# Altium schematic symbol library Connector.SchLib: 87 symbols
Pins are listed as number, name and electrical type; pins without a type are passive.

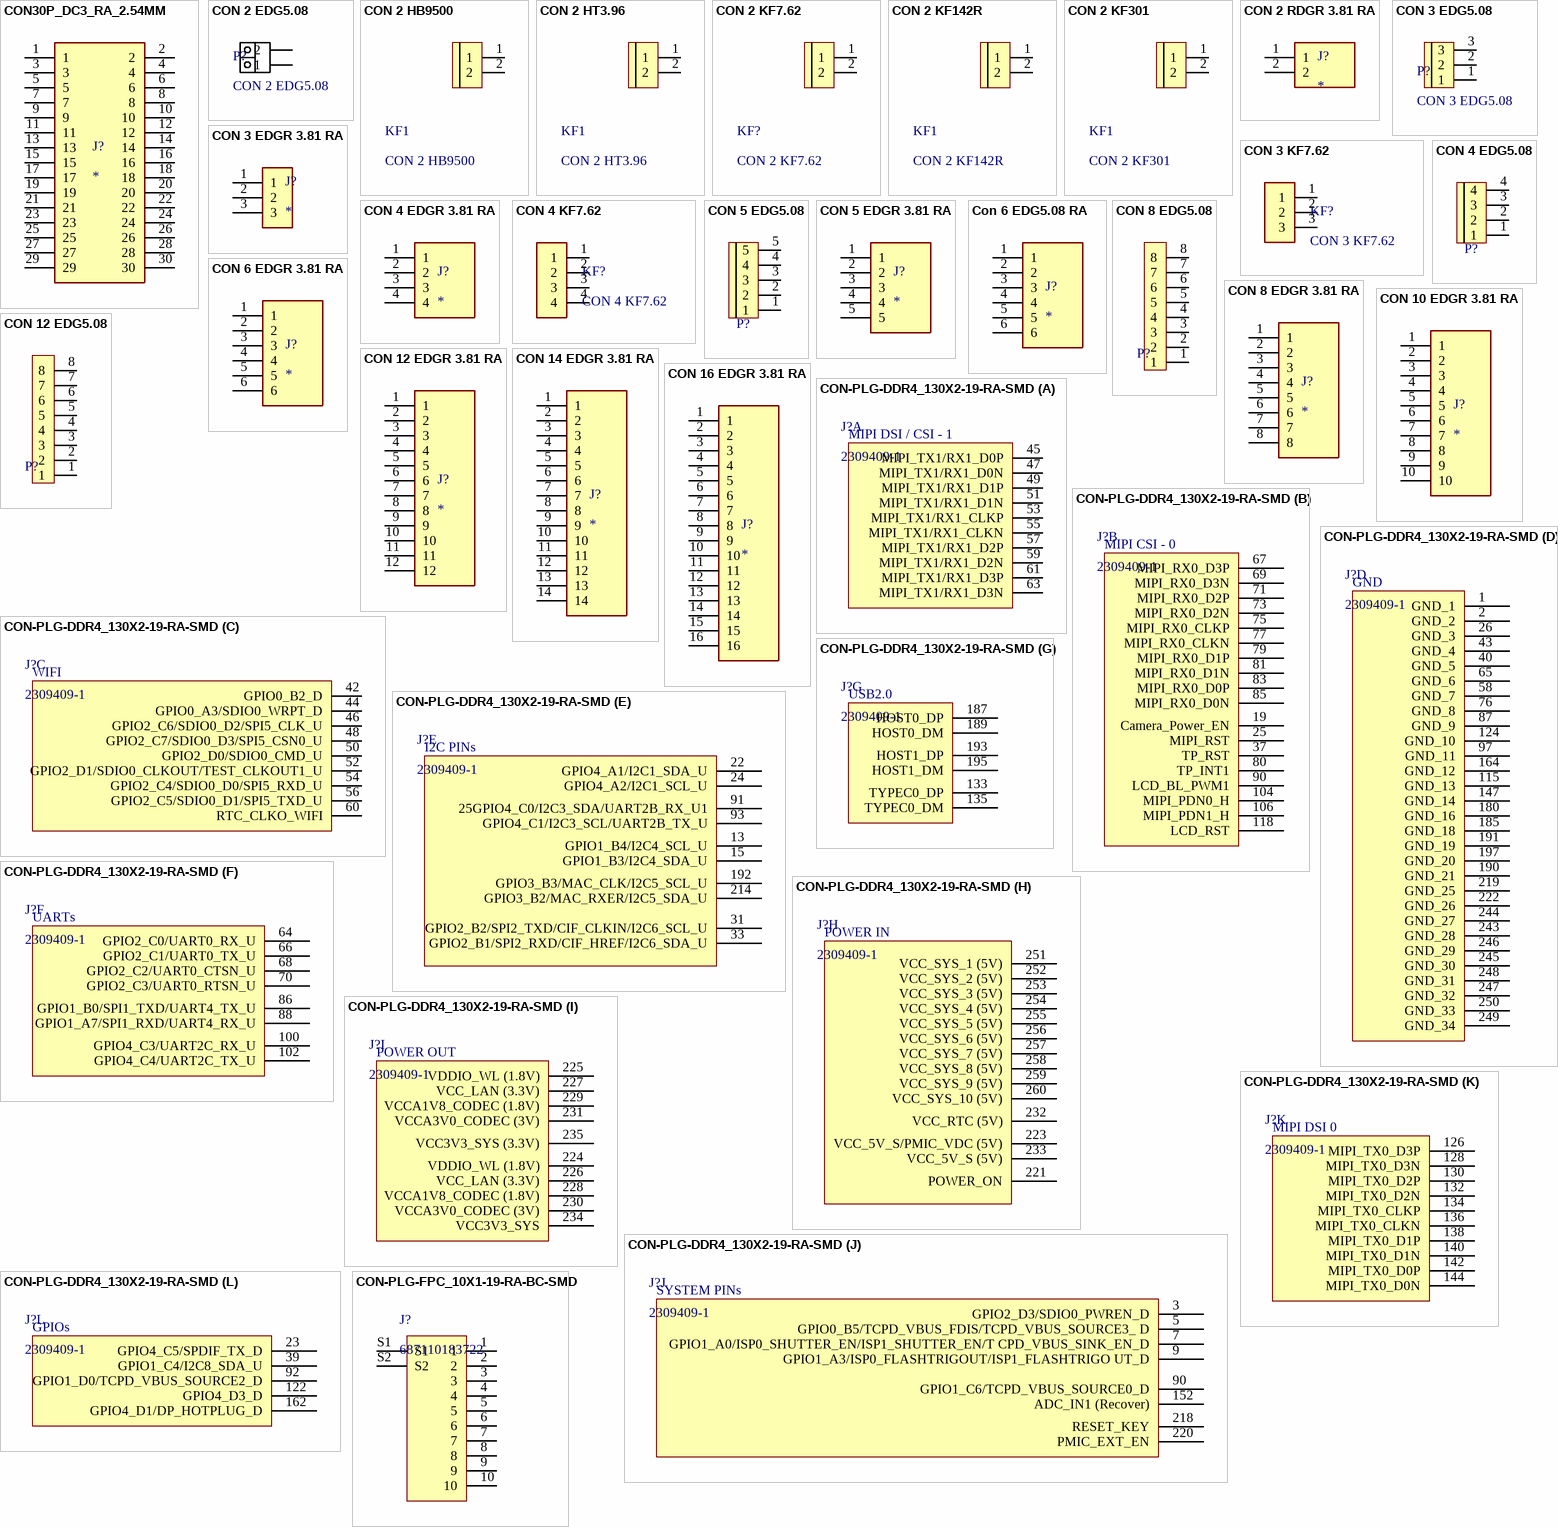
[diagram p0: symbols CON30P_DC3_RA_2.54MM to CON-PLG-FPC_10X1-19-RA-BC-SMD]

## CON30P_DC3_RA_2.54MM
designator J?
MF: {'manufacturer': u'Amphenol ICC (FCI)'}; MP: 75867-133LF; Package: None; Price: None; Value: *; Availability: Unavailable
footprint CON30P_DC3_RA_2.54MM
pins: 1, 2, 3, 4, 5, 6, 7, 8, 9, 10, 11, 12, 13, 14, 15, 16, 17, 18, 19, 20, 21, 22, 23, 24, 25, 26, 27, 28, 29, 30

## CON 2 EDG5.08
designator P?
Cắm; Ten_Linh_Kien: CON 2 2EDG5.08-2P 5.08MM ( Xanh Cong); Ma_Hang: MH000759; Ghi_Chu: *; Don_Vi: Con; Kieu_Chan: *; Chung_Loai: Cắm
footprint CON 2 2EDG5.08
pins: 1, 2

## CON 2 HB9500
designator KF1
Cắm; Ma_Hang: MH002054; Ten_Linh_Kien: CON 2 HB9500-2P 9.5MM; Chung_Loai: Cắm; Ghi_Chu: *; Kieu_Chan: *; Don_Vi: Con
footprint CON 2 HB9500 (Header 2: 300V-20A, 2 pin, hight 300mil, Pin to Pin 400, Colour Green)
pins: 1, 2

## CON 2 HT3.96
designator KF1
Cắm; Ma_Hang: MH000984; Ten_Linh_Kien: CON 2 HT3.96-2P 3.96MM (Cam Cong); Chung_Loai: Cắm; Ghi_Chu: *; Kieu_Chan: *; Don_Vi: Con
footprint CON 2 HT3.96
pins: 1, 2

## CON 2 KF7.62
designator KF?
Cắm; Ma_Hang: MH002053; Ten_Linh_Kien: CON 2 KF7.62-2P 7.62MM (Đen Thẳng); Chung_Loai: Cắm; Ghi_Chu: *; Kieu_Chan: *; Don_Vi: Con
footprint CON 2 KF7.62
pins: 1, 2

## CON 2 KF142R
designator KF1
Cắm; Ma_Hang: MH002051; Ten_Linh_Kien: CON 2 KF142R 5.08MM; Chung_Loai: Cắm; Ghi_Chu: *; Kieu_Chan: *; Don_Vi: Con
footprint CON 2 KF142 5.08 CONG
pins: 1, 2

## CON 2 KF301
designator KF1
Cắm; Ma_Hang: MH000987; Ten_Linh_Kien: CON 2 KF301-2P 5.08MM Xanh Dương; Chung_Loai: Cắm; Ghi_Chu: *; Kieu_Chan: *; Don_Vi: Con
footprint Con 2 KF301 5.08
pins: 1, 2

## CON 2 RDGR 3.81 RA
designator J?
2~24 Poles, Pluggable,Receptacle, Horizontal, 3.81 Pitch, Terminal Block Connector; MF: Same Sky; MP: TBP02R1-381-02BE; SnapEDA_Link: https://www.snapeda.com/parts/TBP02R1-381-02BE/Same+Sky/view-part/?ref=snap; Package: None; Value: *; Check_prices: https://www.snapeda.com/parts/TBP02R1-381-02BE/Same+Sky/view-part/?ref=eda
footprint CON 2 EDGR 3.81 RA
pins: 1, 2

## CON 3 EDG5.08
designator P?
Cắm; Ten_Linh_Kien: CON 3 2EDG5.08-3P 5.08MM ( Xanh Cong); Ma_Hang: MH000760; Ghi_Chu: *; Kieu_Chan: *; Don_Vi: Con; Chung_Loai: Cắm
footprint CON 3 3EDG5.08
pins: 1, 2, 3

## CON 3 EDGR 3.81 RA
designator J?
2~24 Poles, Pluggable,Receptacle, Horizontal, 3.81 Pitch, Terminal Block Connector; MF: Same Sky; MP: TBP02R1-381-03BE; SnapEDA_Link: https://www.snapeda.com/parts/TBP02R1-381-03BE/Same+Sky/view-part/?ref=snap; Package: None; Value: *; Check_prices: https://www.snapeda.com/parts/TBP02R1-381-03BE/Same+Sky/view-part/?ref=eda
footprint CON 3 EDGR 3.81 RA
pins: 1, 2, 3

## CON 3 KF7.62
designator KF?
Cắm; Ma_Hang: MH002053; Ten_Linh_Kien: CON 2 KF7.62-2P 7.62MM (Đen Thẳng); Chung_Loai: Cắm; Ghi_Chu: *; Kieu_Chan: *; Don_Vi: Con
footprint CON 3 KF7.62
pins: 1, 2, 3

## CON 4 EDG5.08
designator P?  (value not drawn)
Cắm; Ten_Linh_Kien: CON 4 2EDG5.08-4P 5.08MM ( Xanh Cong); Ma_Hang: MH000979; Don_Vi: Con; Ghi_Chu: *; Kieu_Chan: *; Chung_Loai: Cắm
footprint CON 4 4EDG5.08
pins: 1, 2, 3, 4

## CON 4 EDGR 3.81 RA
designator J?
2~24 Poles, Pluggable,Receptacle, Horizontal, 3.81 Pitch, Terminal Block Connector; MF: Same Sky; MP: TBP02R1-381-04BE; SnapEDA_Link: https://www.snapeda.com/parts/TBP02R1-381-04BE/Same+Sky/view-part/?ref=snap; Package: None; Value: *; Check_prices: https://www.snapeda.com/parts/TBP02R1-381-04BE/Same+Sky/view-part/?ref=eda
footprint CON 4 EDGR 3.81 RA
pins: 1, 2, 3, 4

## CON 4 KF7.62
designator KF?
Cắm; Ma_Hang: MH002053; Ten_Linh_Kien: CON 2 KF7.62-2P 7.62MM (Đen Thẳng); Chung_Loai: Cắm; Ghi_Chu: *; Kieu_Chan: *; Don_Vi: Con
pins: 1, 2, 3, 4

## CON 5 EDG5.08
designator P?  (value not drawn)
Cắm; Ten_Linh_Kien: CON 5 2EDG5.08-5P 5.08MM ( Xanh Cong); Ma_Hang: MH003589; Kieu_Chan: *; Don_Vi: Con; Ghi_Chu: *; Chung_Loai: Cắm
footprint CON 5 5EDG5.08
pins: 1, 2, 3, 4, 5

## CON 5 EDGR 3.81 RA
designator J?
2~24 Poles, Pluggable,Receptacle, Horizontal, 3.81 Pitch, Terminal Block Connector; MF: Same Sky; MP: TBP02R1-381-05BE; SnapEDA_Link: https://www.snapeda.com/parts/TBP02R1-381-05BE/Same+Sky/view-part/?ref=snap; Package: None; Value: *; Check_prices: https://www.snapeda.com/parts/TBP02R1-381-05BE/Same+Sky/view-part/?ref=eda
footprint CON 5 EDGR 3.81 RA
pins: 1, 2, 3, 4, 5

## Con 6 EDG5.08 RA
designator J?
Terminal Block Connector RA 5.08 Pitch; MF: Same Sky; MP: TBP01R1-508-06BE; SnapEDA_Link: https://www.snapeda.com/parts/TBP01R1-508-06BE/Same+Sky/view-part/?ref=snap; Package: None; Value: *; Check_prices: https://www.snapeda.com/parts/TBP01R1-508-06BE/Same+Sky/view-part/?ref=eda
footprint CON 6 6EDG5.08
footprint Con 6 KF301 5.08
pins: 1, 2, 3, 4, 5, 6

## CON 6 EDGR 3.81 RA
designator J?
2~24 Poles, Pluggable,Receptacle, Horizontal, 3.81 Pitch, Terminal Block Connector; MF: Same Sky; MP: TBP02R1-381-06BE; SnapEDA_Link: https://www.snapeda.com/parts/TBP02R1-381-06BE/Same+Sky/view-part/?ref=snap; Package: None; Value: *; Check_prices: https://www.snapeda.com/parts/TBP02R1-381-06BE/Same+Sky/view-part/?ref=eda
footprint CON 6 EDGR 3.81 RA
pins: 1, 2, 3, 4, 5, 6

## CON 8 EDG5.08
designator P?  (value not drawn)
Cắm; Ten_Linh_Kien: CON 8 2EDG5.08-8P 5.08MM ( Xanh Cong); Ma_Hang: MH000978; Don_Vi: Con; Ghi_Chu: *; Kieu_Chan: *; Chung_Loai: Cắm
footprint CON 8 8EDG5.08
pins: 1, 2, 3, 4, 5, 6, 7, 8

## CON 8 EDGR 3.81 RA
designator J?
2~24 Poles, Pluggable,Receptacle, Horizontal, 3.81 Pitch, Terminal Block Connector; MF: Same Sky; MP: TBP02R1-381-08BE; SnapEDA_Link: https://www.snapeda.com/parts/TBP02R1-381-08BE/Same+Sky/view-part/?ref=snap; Package: None; Value: *; Check_prices: https://www.snapeda.com/parts/TBP02R1-381-08BE/Same+Sky/view-part/?ref=eda
footprint CON 8 EDGR 3.81 RA
pins: 1, 2, 3, 4, 5, 6, 7, 8

## CON 10 EDGR 3.81 RA
designator J?
Pluggable,Receptacle, Horizontal, 3.81 Pitch, Terminal Block Connector; MF: Same Sky; MP: TBP02R1-381-10BE; SnapEDA_Link: https://www.snapeda.com/parts/TBP02R1-381-10BE/Same+Sky/view-part/?ref=snap; Package: None; Value: *; Check_prices: https://www.snapeda.com/parts/TBP02R1-381-10BE/Same+Sky/view-part/?ref=eda
footprint CON 10 EDGR 3.81 RA
pins: 1, 2, 3, 4, 5, 6, 7, 8, 9, 10

## CON 12 EDG5.08
designator P?  (value not drawn)
Cắm; Ten_Linh_Kien: CON 12 2EDG5.08-12P 5.08MM (Xanh Cong); Ma_Hang: MH000977; Don_Vi: Con; Ghi_Chu: *; Kieu_Chan: *; Chung_Loai: Cắm
footprint CON 12 12EDG5.08
pins: 1, 2, 3, 4, 5, 6, 7, 8

## CON 12 EDGR 3.81 RA
designator J?
2~24 Poles, Pluggable,Receptacle, Horizontal, 3.81 Pitch, Terminal Block Connector; MF: Same Sky; MP: TBP02R1-381-12BE; SnapEDA_Link: https://www.snapeda.com/parts/TBP02R1-381-12BE/Same+Sky/view-part/?ref=snap; Package: None; Value: *; Check_prices: https://www.snapeda.com/parts/TBP02R1-381-12BE/Same+Sky/view-part/?ref=eda
footprint CON 12 EDGR 3.81 RA
pins: 1, 2, 3, 4, 5, 6, 7, 8, 9, 10, 11, 12

## CON 14 EDGR 3.81 RA
designator J?
Pluggable,Receptacle, Horizontal, 3.81 Pitch, Terminal Block Connector; MF: {'manufacturer': u'Same Sky (Formerly CUI Devices)'}; MP: TBP02R1-381-14BE; Package: None; Price: None; Value: *; Availability: Unavailable
footprint CON 14 EDGR 3.81 RA
pins: 1, 2, 3, 4, 5, 6, 7, 8, 9, 10, 11, 12, 13, 14

## CON 16 EDGR 3.81 RA
designator J?
2~24 Poles, Pluggable,Receptacle, Horizontal, 3.81 Pitch, Terminal Block Connector; MF: Same Sky; MP: TBP02R1-381-16BE; SnapEDA_Link: https://www.snapeda.com/parts/TBP02R1-381-16BE/Same+Sky/view-part/?ref=snap; Package: None; Value: *; Check_prices: https://www.snapeda.com/parts/TBP02R1-381-16BE/Same+Sky/view-part/?ref=eda
footprint CON 16 EDGR 3.81 RA
pins: 1, 2, 3, 4, 5, 6, 7, 8, 9, 10, 11, 12, 13, 14, 15, 16

## CON-PLG-DDR4_130X2-19-RA-SMD
designator J?, comment 2309409-1
DIMM Connectors DDR4 SODIMM 260P 5.2H STD; Manufacturer: TE Connectivity / Alcoswitch; Alternate Part Number-1: NA; Manufacturer Part Number: 2309409-1; Case/Package: SMD; Supplier-1: Mouser; Supplier Part Number-1: 571-2309409-1
footprint CON260_RK3399-JD4 (DDR4-260Pin)
part A pins: 45 MIPI_TX1/RX1_D0P, 47 MIPI_TX1/RX1_D0N, 49 MIPI_TX1/RX1_D1P, 51 MIPI_TX1/RX1_D1N, 53 MIPI_TX1/RX1_CLKP, 55 MIPI_TX1/RX1_CLKN, 57 MIPI_TX1/RX1_D2P, 59 MIPI_TX1/RX1_D2N, 61 MIPI_TX1/RX1_D3P, 63 MIPI_TX1/RX1_D3N
part B pins: 19 Camera_Power_EN "GPIO1_A1/ISP0_SHUTTER_TRIG/ISP1_SHUTTER_TR IG/TCPD_CC0_VCONN_EN_D", 25 MIPI_RST "GPIO0_B0/SDMMC0_WRPT/TEST_CLKOUT2_U", 37 TP_RST "GPIO1_C7/TCPD_VBUS_SOURCE1_D", 67 MIPI_RX0_D3P, 69 MIPI_RX0_D3N, 71 MIPI_RX0_D2P, 73 MIPI_RX0_D2N, 75 MIPI_RX0_CLKP, 77 MIPI_RX0_CLKN, 79 MIPI_RX0_D1P, 80 TP_INT1, 81 MIPI_RX0_D1N, 83 MIPI_RX0_D0P, 85 MIPI_RX0_D0N, 90 LCD_BL_PWM1, 104 MIPI_PDN0_H "GPIO2_A0/VOP_D0/CIF_D0/I2C2_SDA_U", 106 MIPI_PDN1_H "GPIO2_A1/VOP_D1/CIF_D1/I2C2_SCL_U", 118 LCD_RST "GPIO4_D5_D"
part C pins: 42 GPIO0_B2_D, 44 GPIO0_A3/SDIO0_WRPT_D, 46 GPIO2_C6/SDIO0_D2/SPI5_CLK_U, 48 GPIO2_C7/SDIO0_D3/SPI5_CSN0_U, 50 GPIO2_D0/SDIO0_CMD_U, 52 GPIO2_D1/SDIO0_CLKOUT/TEST_CLKOUT1_U, 54 GPIO2_C4/SDIO0_D0/SPI5_RXD_U, 56 GPIO2_C5/SDIO0_D1/SPI5_TXD_U, 60 RTC_CLKO_WIFI
part D pins: 1 GND_1, 2 GND_2, 26 GND_3, 40 GND_5, 43 GND_4, 58 GND_7, 65 GND_6, 76 GND_8, 87 GND_9, 97 GND_11, 115 GND_13, 124 GND_10, 147 GND_14, 164 GND_12, 180 GND_16, 185 GND_18, 190 GND_21, 191 GND_19, 197 GND_20, 219 GND_25, 222 GND_26, 243 GND_28, 244 GND_27, 245 GND_30, 246 GND_29, 247 GND_32, 248 GND_31, 249 GND_34, 250 GND_33
part E pins: 13 GPIO1_B4/I2C4_SCL_U, 15 GPIO1_B3/I2C4_SDA_U, 22 GPIO4_A1/I2C1_SDA_U, 24 GPIO4_A2/I2C1_SCL_U, 31 GPIO2_B2/SPI2_TXD/CIF_CLKIN/I2C6_SCL_U, 33 GPIO2_B1/SPI2_RXD/CIF_HREF/I2C6_SDA_U, 91 25GPIO4_C0/I2C3_SDA/UART2B_RX_U1, 93 GPIO4_C1/I2C3_SCL/UART2B_TX_U, 192 GPIO3_B3/MAC_CLK/I2C5_SCL_U, 214 GPIO3_B2/MAC_RXER/I2C5_SDA_U
part F pins: 64 GPIO2_C0/UART0_RX_U, 66 GPIO2_C1/UART0_TX_U, 68 GPIO2_C2/UART0_CTSN_U, 70 GPIO2_C3/UART0_RTSN_U, 86 GPIO1_B0/SPI1_TXD/UART4_TX_U, 88 GPIO1_A7/SPI1_RXD/UART4_RX_U, 100 GPIO4_C3/UART2C_RX_U, 102 GPIO4_C4/UART2C_TX_U
part G pins: 133 TYPEC0_DP, 135 TYPEC0_DM, 187 HOST0_DP, 189 HOST0_DM, 193 HOST1_DP, 195 HOST1_DM
part H pins: 221 POWER_ON ""Power on Signal Input, External connection Power key", 223 VCC_5V_S/PMIC_VDC (5V), 232 VCC_RTC (5V), 233 VCC_5V_S (5V), 251 VCC_SYS_1 (5V), 252 VCC_SYS_2 (5V), 253 VCC_SYS_3 (5V), 254 VCC_SYS_4 (5V), 255 VCC_SYS_5 (5V), 256 VCC_SYS_6 (5V), 257 VCC_SYS_7 (5V), 258 VCC_SYS_8 (5V), 259 VCC_SYS_9 (5V), 260 VCC_SYS_10 (5V)
part I pins: 224 VDDIO_WL (1.8V), 225 VDDIO_WL (1.8V), 226 VCC_LAN (3.3V), 227 VCC_LAN (3.3V), 228 VCCA1V8_CODEC (1.8V), 229 VCCA1V8_CODEC (1.8V), 230 VCCA3V0_CODEC (3V), 231 VCCA3V0_CODEC (3V), 234 VCC3V3_SYS, 235 VCC3V3_SYS (3.3V)
part J pins: 3 GPIO2_D3/SDIO0_PWREN_D, 5 GPIO0_B5/TCPD_VBUS_FDIS/TCPD_VBUS_SOURCE3_ D, 7 GPIO1_A0/ISP0_SHUTTER_EN/ISP1_SHUTTER_EN/T CPD_VBUS_SINK_EN_D, 9 GPIO1_A3/ISP0_FLASHTRIGOUT/ISP1_FLASHTRIGO UT_D, 90 GPIO1_C6/TCPD_VBUS_SOURCE0_D, 152 ADC_IN1 (Recover), 218 RESET_KEY, 220 PMIC_EXT_EN
part K pins: 126 MIPI_TX0_D3P, 128 MIPI_TX0_D3N, 130 MIPI_TX0_D2P, 132 MIPI_TX0_D2N, 134 MIPI_TX0_CLKP, 136 MIPI_TX0_CLKN, 138 MIPI_TX0_D1P, 140 MIPI_TX0_D1N, 142 MIPI_TX0_D0P, 144 MIPI_TX0_D0N
part L pins: 23 GPIO4_C5/SPDIF_TX_D, 39 GPIO1_C4/I2C8_SDA_U, 92 GPIO1_D0/TCPD_VBUS_SOURCE2_D, 122 GPIO4_D3_D, 162 GPIO4_D1/DP_HOTPLUG_D
part A text: MIPI DSI / CSI - 1
part B text: MIPI CSI - 0
part C text: WIFI
part D text: GND
part E text: I2C PINs
part F text: UARTs
part G text: USB2.0
part H text: POWER IN
part I text: POWER OUT
part J text: SYSTEM PINs
part K text: MIPI DSI 0
part L text: GPIOs

## CON-PLG-FPC_10X1-19-RA-BC-SMD
designator J?, comment 687110183722
FFC & FPC Connectors WR-FPC SMT Horiztl .50mm Bott Cont 10P; Manufacturer: WE; Mating Part Number: 687610200002; Alternate Part Number-1: NA; Manufacturer Part Number: 687110183722; Case/Package: SMD; Supplier-1: Mouser; Supplier Part Number-1: 710-687110183722
footprint CON10_19_687110183722 _TH_RA (10 PIN FPC Connector)
pins: 1, 2, 3, 4, 5, 6, 7, 8, 9, 10, S1, S2

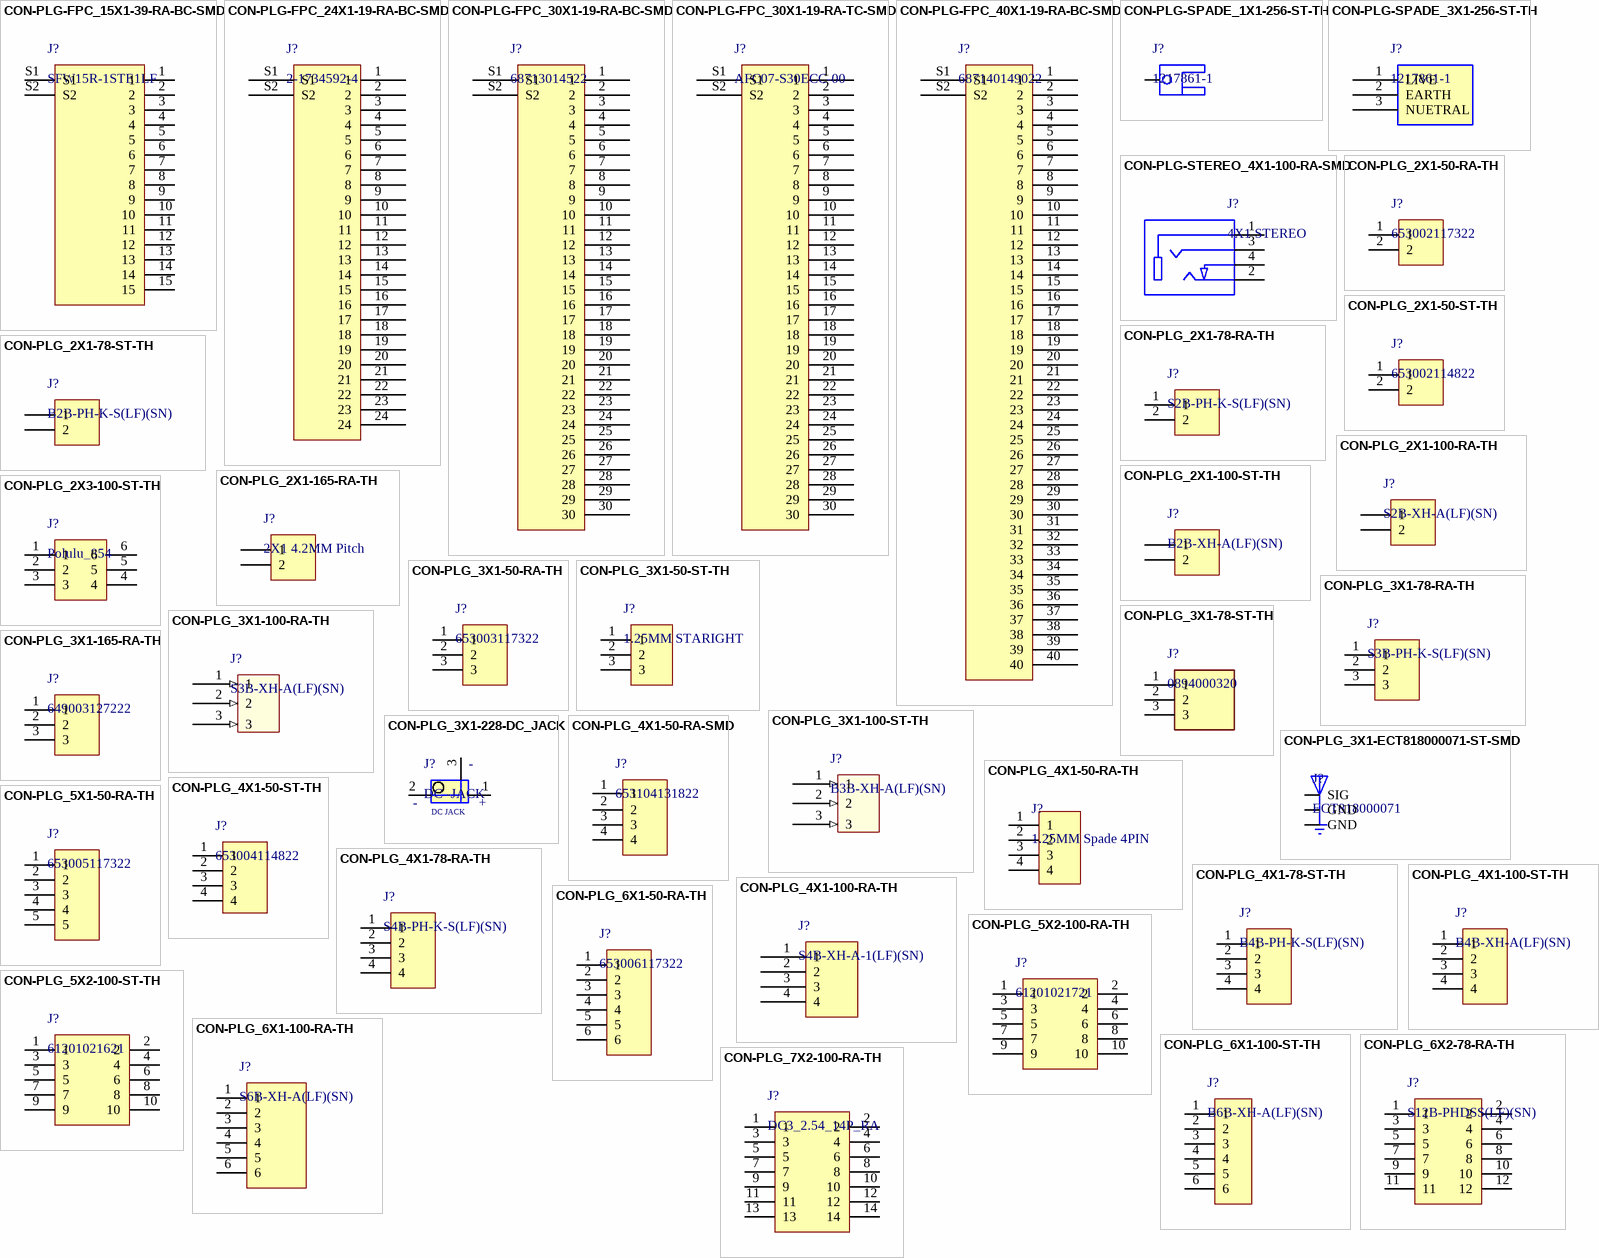
[diagram p1: symbols CON-PLG-FPC_15X1-39-RA-BC-SMD to CON-PLG_7X2-100-RA-TH]

## CON-PLG-FPC_15X1-39-RA-BC-SMD
designator J?, comment SFW15R-1STE1LF
15 Position FFC, FPC Connector Contacts, Bottom 0.039" (1.00mm) Surface Mount, Right Angle; Manufacturer: TE Connectivity; Mating Part Number: 100R15-457B; Alternate Part Number-1: NA; Manufacturer Part Number: SFW15R-1STE1LF; Case/Package: SMD; Supplier-1: Mouser; Supplier Part Number-1: SFW15R-1STE1LF
footprint CON15_39_SFW15R-1STE1LF (15 PIN 1mm FPC Connector)
pins: 1, 2, 3, 4, 5, 6, 7, 8, 9, 10, 11, 12, 13, 14, 15, S1, S2

## CON-PLG-FPC_24X1-19-RA-BC-SMD
designator J?, comment 2-1734592-4
FFC & FPC Connectors FPC CONN 0.5MM PITCH B/C 24P; Manufacturer: TE Connectivity; Mating Part Number: 0151660259; Alternate Part Number-1: NA; Manufacturer Part Number: 2-1734592-4; Case/Package: SMD; Supplier-1: Mouser; Supplier Part Number-1: 571-2-1734592-4
footprint CON24_19_2-1734592-4_SMD_RA (24 PIN FPC Connector)
pins: 1, 2, 3, 4, 5, 6, 7, 8, 9, 10, 11, 12, 13, 14, 15, 16, 17, 18, 19, 20, 21, 22, 23, 24, S1, S2

## CON-PLG-FPC_30X1-19-RA-BC-SMD
designator J?, comment 68713014522
FFC & FPC Connectors 0.5 FPC EASYON BTM CONT RA 30CKT ZIF; Manufacturer: WE; Mating Part Number: 687730200002; Alternate Part Number-1: NA; Manufacturer Part Number: 68713014522; Case/Package: SMD; Supplier-1: Mouser; Supplier Part Number-1: 68713014522
footprint CON30_19_68713014522 _SMD_RA (30 PIN FPC Connector)
pins: 1, 2, 3, 4, 5, 6, 7, 8, 9, 10, 11, 12, 13, 14, 15, 16, 17, 18, 19, 20, 21, 22, 23, 24, 25, 26, 27, 28, 29, 30, S1, S2

## CON-PLG-FPC_30X1-19-RA-TC-SMD
designator J?, comment AFC07-S30ECC-00
FFC & FPC Connectors 0.5 FPC ZIF SMT R/AU prCont30CktEmbsTpPkg; Manufacturer: JUSHUO; Mating Part Number: 0151660317; Alternate Part Number-1: NA; Manufacturer Part Number: AFC07-S30ECC-00; Case/Package: SMD; Supplier-1: LCSC; Supplier Part Number-1: C11095
footprint CON30_19_ AFC07-S30ECC-00_SMD_RA (FPC Connector)
pins: 1, 2, 3, 4, 5, 6, 7, 8, 9, 10, 11, 12, 13, 14, 15, 16, 17, 18, 19, 20, 21, 22, 23, 24, 25, 26, 27, 28, 29, 30, S1, S2

## CON-PLG-FPC_40X1-19-RA-BC-SMD
designator J?, comment 687140149022
FFC & FPC Connectors 0.5 FPC EASYON BTM CONT RA 40CKT ZIF; Manufacturer: Molex; Mating Part Number: 687640100002; Alternate Part Number-1: NA; Manufacturer Part Number: 687140149022; Case/Package: SMD; Supplier-1: Mouser; Supplier Part Number-1: 687140149022
footprint CON40_19.6_687140149022_SMD_RA (FPC Connector)
pins: 1, 2, 3, 4, 5, 6, 7, 8, 9, 10, 11, 12, 13, 14, 15, 16, 17, 18, 19, 20, 21, 22, 23, 24, 25, 26, 27, 28, 29, 30, 31, 32, 33, 34, 35, 36, 37, 38, 39, 40, S1, S2

## CON-PLG-SPADE_1X1-256-ST-TH
designator J?, comment 1217861-1
1 Pins, 1 Row 256mil Pitch, Straight, Male; Manufacturer: TE Connectivity; Mating Part Number: 2-520183-2; Alternate Part Number-1: NA; Manufacturer Part Number: 1217861-1; Case/Package: TH-CON; Supplier-1: ARROW; Supplier Part Number-1: 1217861-1
footprint CON1_P192_70D137_TH_ST (SOLDER TABS)
pins: 1

## CON-PLG-SPADE_3X1-256-ST-TH
designator J?, comment 1217861-1
3 Pins, 1 Row 256mil Pitch, Straight, Male; Manufacturer: TE Connectivity; Mating Part Number: 2-520183-2; Alternate Part Number-1: NA; Manufacturer Part Number: 1217861-1; Case/Package: TH-CON; Supplier-1: ARROW; Supplier Part Number-1: 1217861-1
footprint CON3_P196_591D78_TH_ST_INDC (SOLDER TABS)
pins: 1 LIVE, 2 EARTH, 3 NUETRAL

## CON-PLG-STEREO_4X1-100-RA-SMD
designator J?, comment 4X1 STEREO
2.50mm (0.094", 3/32", Sub Mini, Miniature) - Headphone Phone Jack Stereo (4 Conductor, TRRS) Connector Solder; Manufacturer: CUI Devices; Manufacturer Part Number: SJ-2504A-SMT-TR; Alternate Part Number-1: NA; Case/Package: SMD; Supplier Part Number-1: CP-SJ-2504A-SMT-CT-ND - Cut Tape (CT); Supplier-1: Digikey
footprint CON_SJ-2504A-SMT-TR_SMD
pins: 1, 2, 3, 4

## CON-PLG_2X1-50-RA-TH
designator J?, comment 653002117322
1 Pins, 1 Row 256mil Pitch, Straight, Male; Manufacturer: JST; Mating Part Number: 653002113322; Crimp Part Number: 653153128130; Alternate Part Number-1: NA; Manufacturer Part Number: 653002117322; Case/Package: TH-CON; Supplier-1: WURTH; Supplier Part Number-1: 653002117322
footprint CON2_50_653002117322_TH_RA (Wurth Connector)
pins: 1, 2

## CON-PLG_2X1-50-ST-TH
designator J?, comment 653002114822
2 Pins, 1 Row 1.25mm Pitch, Straight Connector, male; Manufacturer: JST; Mating Part Number: 653002113322; Crimp Part Number: 653153128130; Alternate Part Number-1: NA; Manufacturer Part Number: 653002114822; Case/Package: TH-CON; Supplier-1: WURTH; Supplier Part Number-1: 653002114822
footprint CON2_50_653002114822_TH_ST (WR-WTB 1.25 mm Male Vertical Shrouded Header)
pins: 1, 2

## CON-PLG_2X1-78-RA-TH
designator J?, comment S2B-PH-K-S(LF)(SN)
2 Pins, 1 Row 2mm Pitch, Right angle Connector, male; Manufacturer: JST; Mating Part Number: PHR-2; Crimp Part Number: ASPHSPH24K51; Alternate Part Number-1: NA; Manufacturer Part Number: S2B-PH-K-S(LF)(SN); Case/Package: TH-CON; Supplier-1: ARROW; Supplier Part Number-1: S2B-PH-K-S(LF)(SN)
footprint CON2_78_S2B-PH-K-S_TH_RA (CONN HEADER R/A)
pins: 1, 2

## CON-PLG_2X1-78-ST-TH
designator J?, comment B2B-PH-K-S(LF)(SN)
2 Pins, 1 Row 2mm Pitch, Straight Connector, male; Manufacturer: JST; Mating Part Number: PHR-2; Crimp Part Number: ASPHSPH24K51; Alternate Part Number-1: NA; Manufacturer Part Number: B2B-PH-K-S(LF)(SN); Case/Package: TH-CON; Supplier-1: ARROW; Supplier Part Number-1: B2B-PH-K-S(LF)(SN)
footprint CON2_78_B2B-PH-K-S_TH_ST (CONNECTOR)
pins: 1, 2

## CON-PLG_2X1-100-RA-TH
designator J?, comment S2B-XH-A(LF)(SN)
2 Pins, 1 Row 2.54mm Pitch, right angle Connector, male; Manufacturer: JST; Mating Part Number: XHP-2; Crimp Part Number: ASXHSXH22K51; Alternate Part Number-1: NA; Manufacturer Part Number: S2B-XH-A(LF)(SN); Case/Package: TH-CON; Supplier-1: ARROW; Supplier Part Number-1: S2B-XH-A(LF)(SN)
footprint CON2_100_S2B-XH-A_TH_RA (Connector Header)
pins: 1, 2

## CON-PLG_2X1-100-ST-TH
designator J?, comment B2B-XH-A(LF)(SN)
2 Pins, 1 Row 2.54mm Pitch, Straight Connector, male; Manufacturer: JST; Mating Part Number: XHP-2; Crimp Part Number: ASXHSXH22K51; Alternate Part Number-1: NA; Manufacturer Part Number: B2B-XH-A(LF)(SN); Case/Package: TH-CON; Supplier-1: SP ROAD; Supplier Part Number-1: B2B-XH-A(LF)(SN)
footprint CON2_100_B2B-XH-A_TH_ST (Connector Header)
pins: 1, 2

## CON-PLG_2X1-165-RA-TH
designator J?, comment 2X1 4.2MM Pitch
2 Pins, 1 Row 4.2mm Pitch, right angle Connector, male; Manufacturer Part Number: 649002127222; MANUFACTURER: WE; Mating Part Number: 649002013322; Crimp Part Number: 64900513722; Alternate Part Number-1: NA; Case/Package: TH-CON; Supplier-1: WURTH; Supplier Part Number-1: 649002127222
footprint CON2_165_649002127222_TH_RA (Male Single Row Angled Header)
pins: 1, 2

## CON-PLG_2X3-100-ST-TH
designator J?, comment Polulu_854
6-pin shrouded male headers are great general-purpose connectors and are perfect for AVR ISP programming; Manufacturer: NA; Manufacturer Part Number: NA; Case/Package: TH; Supplier-1: Polulu; Supplier Part Number-1: Polulu_854; Alternate Part Number-1: NA
footprint CON6_100_59D78_TH_ST - duplicate (6 PIN IDC Straight)
pins: 1, 2, 3, 4, 5, 6

## CON-PLG_3X1-50-RA-TH
designator J?, comment 653003117322
3 Pins, 1 Row 1.25mm Pitch, right angleConnector, male; Manufacturer: Molex; Mating Part Number: 653003113322; Crimp Part Number: 653153128130; Alternate Part Number-1: NA; Manufacturer Part Number: 653003117322; Case/Package: TH-CON; Supplier-1: WURTH; Supplier Part Number-1: 653003117322
footprint CON3_50_653003117322_TH_RA (Connector Header)
pins: 1, 2, 3

## CON-PLG_3X1-50-ST-TH
designator J?, comment 1.25MM STARIGHT
3 Pins, 1 Row 1.25mm Pitch, straight Connector, male; Manufacturer Part Number: 653003114822; Manufacturer: WURTH; Mating Part Number: 653003113322; Crimp Part Number: 653153128130; Alternate Part Number-1: NA; Case/Package: TH-CON; Supplier-1: WURTH; Supplier Part Number-1: 653003114822
footprint CON3_50_653003114822_TH_ST (Connector Header)
pins: 1, 2, 3

## CON-PLG_3X1-78-RA-TH
designator J?, comment S3B-PH-K-S(LF)(SN)
3 Pins, 1 Row 2mm Pitch, right angle Connector, male; Manufacturer: JST; Mating Part Number: PHR-3; Crimp Part Number: ASPHSPH24K51; Alternate Part Number-1: NA; Manufacturer Part Number: S3B-PH-K-S(LF)(SN); Case/Package: TH-CON; Supplier-1: ARROW; Supplier Part Number-1: S3B-PH-K-S(LF)(SN)
footprint CON3_78_S3B-PH-K-S_TH_RA (Connector Header)
pins: 1, 2, 3

## CON-PLG_3X1-78-ST-TH
designator J?, comment 0894000320
3 Pins, 1 Row 2mm Pitch, straight Connector, male; Manufacturer: JST; Alternate Part Number-1: NA; Manufacturer Part Number: 0894000320; Case/Package: TH-CON; Supplier-1: MOUSER; Supplier Part Number-1: 894000320
footprint CON3_78_B3B-PH-K-S_TH_ST (2mm 3 way JST Connector)
pins: 1, 2, 3

## CON-PLG_3X1-100-RA-TH
designator J?, comment S3B-XH-A(LF)(SN)
3 Pins, 1 Row 2.54mm Pitch, right angle Connector, male; Manufacturer: JST; Mating Part Number: XHP-3; Crimp Part Number: ASXHSXH22K51; Alternate Part Number-1: NA; Manufacturer Part Number: S3B-XH-A(LF)(SN); Case/Package: TH-CON; Supplier-1: ARROW; Supplier Part Number-1: S3B-XH-A(LF)(SN)
footprint CON3_100_S3B-XH-A_TH_RA (Connector Header)
pins: 1 (in), 2 (in), 3 (in)

## CON-PLG_3X1-100-ST-TH
designator J?, comment B3B-XH-A(LF)(SN)
3 Pins, 1 Row 2.54mm Pitch, straight Connector, male; Manufacturer: CUI; Mating Part Number: XHP-3; Crimp Part Number: ASXHSXH22K51; Alternate Part Number-1: NA; Manufacturer Part Number: B3B-XH-A(LF)(SN); Case/Package: TH-CON; Supplier-1: ARROW; Supplier Part Number-1: B3B-XH-A(LF)(SN)
footprint CON3_100_B3B-XH-A_TH_ST (Connector Header)
pins: 1 (in), 2 (in), 3 (in)

## CON-PLG_3X1-165-RA-TH
designator J?, comment 649003127222
3 Pins, 1 Row 4.2mm Pitch, right angle Connector, male; manufacturer: WE; Mating Part Number: 649003013322; Crimp Part Number: 64900513722; Alternate Part Number-1: NA; Manufacturer Part Number: 649003127222; Case/Package: TH-CON; Supplier-1: WURTH; Supplier Part Number-1: 649003127222
footprint CON3_165_649003127222_TH_RA (Connector Header)
pins: 1, 2, 3

## CON-PLG_3X1-228-DC_JACK
designator J?, comment DC -JACK
3 Pins, 1 Row 228mil Pitch, right angle Connector, male; Manufacturer: JST; Manufacturer Part Number: PJ-002A; Alternate Part Number-1: NA; Case/Package: TH-CON; Supplier-1: SP ROAD; Supplier Part Number-1: NA
footprint CON3_129_PJ-002A_TH_RA (DC JACK)
pins: 1, 2, 3 -
text: +; DC JACK

## CON-PLG_3X1-ECT818000071-ST-SMD
designator J?, comment ECT818000071
SMD RF Connectors/Coaxial Connectors RoHS; Manufacturer: ECT; Alternate Part Number-1: NA; Manufacturer Part Number: ECT818000071; Case/Package: SMD; Supplier-1: LCSC; Supplier Part Number-1: C437252
footprint CON3_UFL_116_SMD_ST (UFL Connector)
pins: 1 GND, 2 SIG, 3 GND

## CON-PLG_4X1-50-RA-SMD
designator J?, comment 653104131822
4 Pins, 1 Row 1.25mm Pitch, right angle Connector, male; Manufacturer: WE; Mating Part Number: 653004113322; Crimp Part Number: 65300113722DEC; Alternate Part Number-1: NA; Manufacturer Part Number: 653104131822; Case/Package: TH-CON; Supplier-1: WURTH; Supplier Part Number-1: 653104131822
footprint CON4_653104131822_SMD (CONNECTOR)
pins: 1, 2, 3, 4

## CON-PLG_4X1-50-RA-TH
designator J?, comment 1.25MM Spade 4PIN
4 Pins, 1 Row 1.25mm Pitch, right angle Connector, male; Manufacturer Part Number: 653004117322; Manufacturer: JST; Mating Part Number: 653004113322; Crimp Part Number: 653153128130; Alternate Part Number-1: NA; Case/Package: TH-CON; Supplier-1: WURTH; Supplier Part Number-1: 653004117322
footprint CON4_50_653004117322_TH_RA (wurth connector)
pins: 1, 2, 3, 4

## CON-PLG_4X1-50-ST-TH
designator J?, comment 653004114822
4 Pins, 1 Row 1.25mm Pitch, straight Connector, male; Manufacturer: JST; Mating Part Number: 653004113322; Crimp Part Number: 653153128130; Alternate Part Number-1: NA; Manufacturer Part Number: 653004114822; Case/Package: TH-CON; Supplier-1: WURTH; Supplier Part Number-1: 653004114822
footprint CON4_50_653004114822_TH_ST (Connector Header)
pins: 1, 2, 3, 4

## CON-PLG_4X1-78-RA-TH
designator J?, comment S4B-PH-K-S(LF)(SN)
4 Pins, 1 Row 2mm Pitch, right angle Connector, male; Manufacturer: Wurth Electronics; Mating Part Number: PHR-4; Crimp Part Number: ASPHSPH24K51; Alternate Part Number-1: NA; Manufacturer Part Number: S4B-PH-K-S(LF)(SN); Case/Package: TH-CON; Supplier-1: ARROW; Supplier Part Number-1: S4B-PH-K-S(LF)(SN)
footprint CON4_78_S4B-PH-K-S_TH_RA (Connector Header)
pins: 1, 2, 3, 4

## CON-PLG_4X1-78-ST-TH
designator J?, comment B4B-PH-K-S(LF)(SN)
Connector Header Through Hole 4 position 0.079" (2.00mm); Manufacturer: JST; Mating Part Number: PHR-4; Crimp Part Number: ASPHSPH24K51; Alternate Part Number-1: NA; Manufacturer Part Number: B4B-PH-K-S(LF)(SN); Case/Package: TH; Supplier-1: SP Road; Supplier Part Number-1: NA
footprint CON4_78_B4B-PH-K-S(LF)(SN) (JST TH)
pins: 1, 2, 3, 4

## CON-PLG_4X1-100-RA-TH
designator J?, comment S4B-XH-A-1(LF)(SN)
4 Pins, 1 Row 2.54mm Pitch, right angle Connector, male; Manufacturer: Wurth Electronics; Mating Part Number: XHP-4; Crimp Part Number: ASXHSXH22K51; Alternate Part Number-1: NA; Manufacturer Part Number: S4B-XH-A-1(LF)(SN); Case/Package: TH-CON; Supplier-1: LCSC; Supplier Part Number-1: S4B-XH-A
footprint CON4_100_S4B-XH-A_TH_RA (Connector Header)
pins: 1, 2, 3, 4

## CON-PLG_4X1-100-ST-TH
designator J?, comment B4B-XH-A(LF)(SN)
4 Pins, 1 Row 2.54mm Pitch, straight Connector, male; Manufacturer: Wurth Electronics; Mating Part Number: XHP-4; Crimp Part Number: ASXHSXH22K51; Alternate Part Number-1: NA; Manufacturer Part Number: B4B-XH-A(LF)(SN); Case/Package: TH-CON; Supplier-1: LCSC; Supplier Part Number-1: B4B-XH-A(LF)(SN)
footprint CON4_100_B4B-XH-A_TH_ST (Connector Header)
pins: 1, 2, 3, 4

## CON-PLG_5X1-50-RA-TH
designator J?, comment 653005117322
5 Pins, 1 Row 1.25mm Pitch, right angle Connector, male; Manufacturer: JST; Mating Part Number: 653005113322; Crimp Part Number: 653153128130; Alternate Part Number-1: NA; Manufacturer Part Number: 653005117322; Case/Package: TH-CON; Supplier-1: WURTH; Supplier Part Number-1: 653005117322
footprint CON5_50_653005117322_TH_RA (Connector Header)
pins: 1, 2, 3, 4, 5

## CON-PLG_5X2-100-RA-TH
designator J?, comment 61201021721
10 Pins, 2 Row 2.54mm Pitch, right angle Connector, male; Manufacturer: wurth electronics; Mating Part Number: 61201023021; Crimp Part Number: 63911015521CAB; Alternate Part Number-1: NA; Manufacturer Part Number: 61201021721; Case/Package: TH-CON; Supplier-1: WURTH; Supplier Part Number-1: 61201021721
footprint CON10_100_61201021721_TH_RA
pins: 1, 2, 3, 4, 5, 6, 7, 8, 9, 10

## CON-PLG_5X2-100-ST-TH
designator J?, comment 61201021621
10 Pins, 2 Row 2.54mm Pitch, straight Connector, male; Manufacturer: Wurth Electronics; Mating Part Number: 61201023021; Crimp Part Number: 63911015521CAB; Alternate Part Number-1: NA; Manufacturer Part Number: 61201021621; Case/Package: TH-CON; Supplier-1: WURTH; Supplier Part Number-1: 61201021621
footprint CON10_100_61201021621_TH_ST
pins: 1, 2, 3, 4, 5, 6, 7, 8, 9, 10

## CON-PLG_6X1-50-RA-TH
designator J?, comment 653006117322
6 Pins, 1 Row 1.25mm Pitch, right angle Connector, male; Manufacturer: Wurth Electronics; Mating Part Number: 653006113322; Crimp Part Number: 653153128130; Alternate Part Number-1: NA; Manufacturer Part Number: 653006117322; Case/Package: TH-CON; Supplier-1: WURTH; Supplier Part Number-1: 653006117322
footprint CON6_50_653006117322_TH_RA (wurth connector)
pins: 1, 2, 3, 4, 5, 6

## CON-PLG_6X1-100-RA-TH
designator J?, comment S6B-XH-A(LF)(SN)
6 Pins, 1 Row 2.54mm Pitch, right angle Connector, male; Manufacturer: JST; Mating Part Number: XHP-6; Crimp Part Number: ASXHSXH22K51; Alternate Part Number-1: NA; Manufacturer Part Number: S6B-XH-A(LF)(SN); Case/Package: TH-CON; Supplier-1: ARROW; Supplier Part Number-1: S6B-XH-A(LF)(SN)
footprint CON6_100_S6B-XH-A_TH_RA (Connector Header)
pins: 1, 2, 3, 4, 5, 6

## CON-PLG_6X1-100-ST-TH
designator J?, comment B6B-XH-A(LF)(SN)
6 Pins, 1 Row 2.54mm Pitch, straight Connector, male; Manufacturer: JST; Mating Part Number: XHP-6; Crimp Part Number: ASXHSXH22K51; Alternate Part Number-1: NA; Manufacturer Part Number: B6B-XH-A(LF)(SN); Case/Package: TH-CON; Supplier-1: ARROW; Supplier Part Number-1: B6B-XH-A(LF)(SN)
footprint CON6_100_B6B-XH-A_TH_ST (Connector Header)
pins: 1, 2, 3, 4, 5, 6

## CON-PLG_6X2-78-RA-TH
designator J?, comment S12B-PHDSS(LF)(SN)
12 Pins, 2 Row 2mm Pitch, right angle Connector, male; Manufacturer: JST; Mating Part Number: PHDR-12VS; Crimp Part Number: SPHD-001T-P0.5; Alternate Part Number-1: NA; Manufacturer Part Number: S12B-PHDSS(LF)(SN); Case/Package: TH-CON; Supplier-1: ARROW; Supplier Part Number-1: S12B-PHDSS(LF)(SN)
footprint CON12_78_S12B-PHDSS_TH_RA (CONNECTOR)
pins: 1, 2, 3, 4, 5, 6, 7, 8, 9, 10, 11, 12

## CON-PLG_7X2-100-RA-TH
designator J?, comment DC3_2.54_14P_RA
14 Pins, 2 Row 2.54mm Pitch, right angle Connector, male; Manufacturer: WE; Manufacturer Part Number: 61201421721; Mating Part Number: 61201423021; Crimp Part Number: 63911415521CAB; Alternate Part Number-1: NA; Case/Package: TH-CON; Supplier-1: WURTH; Supplier Part Number-1: 61201421721
footprint CON14_100_61201421721_TH_RA (Connector Header Through Hole, Right Angle 14 position 0.100" (2.54mm))
pins: 1, 2, 3, 4, 5, 6, 7, 8, 9, 10, 11, 12, 13, 14

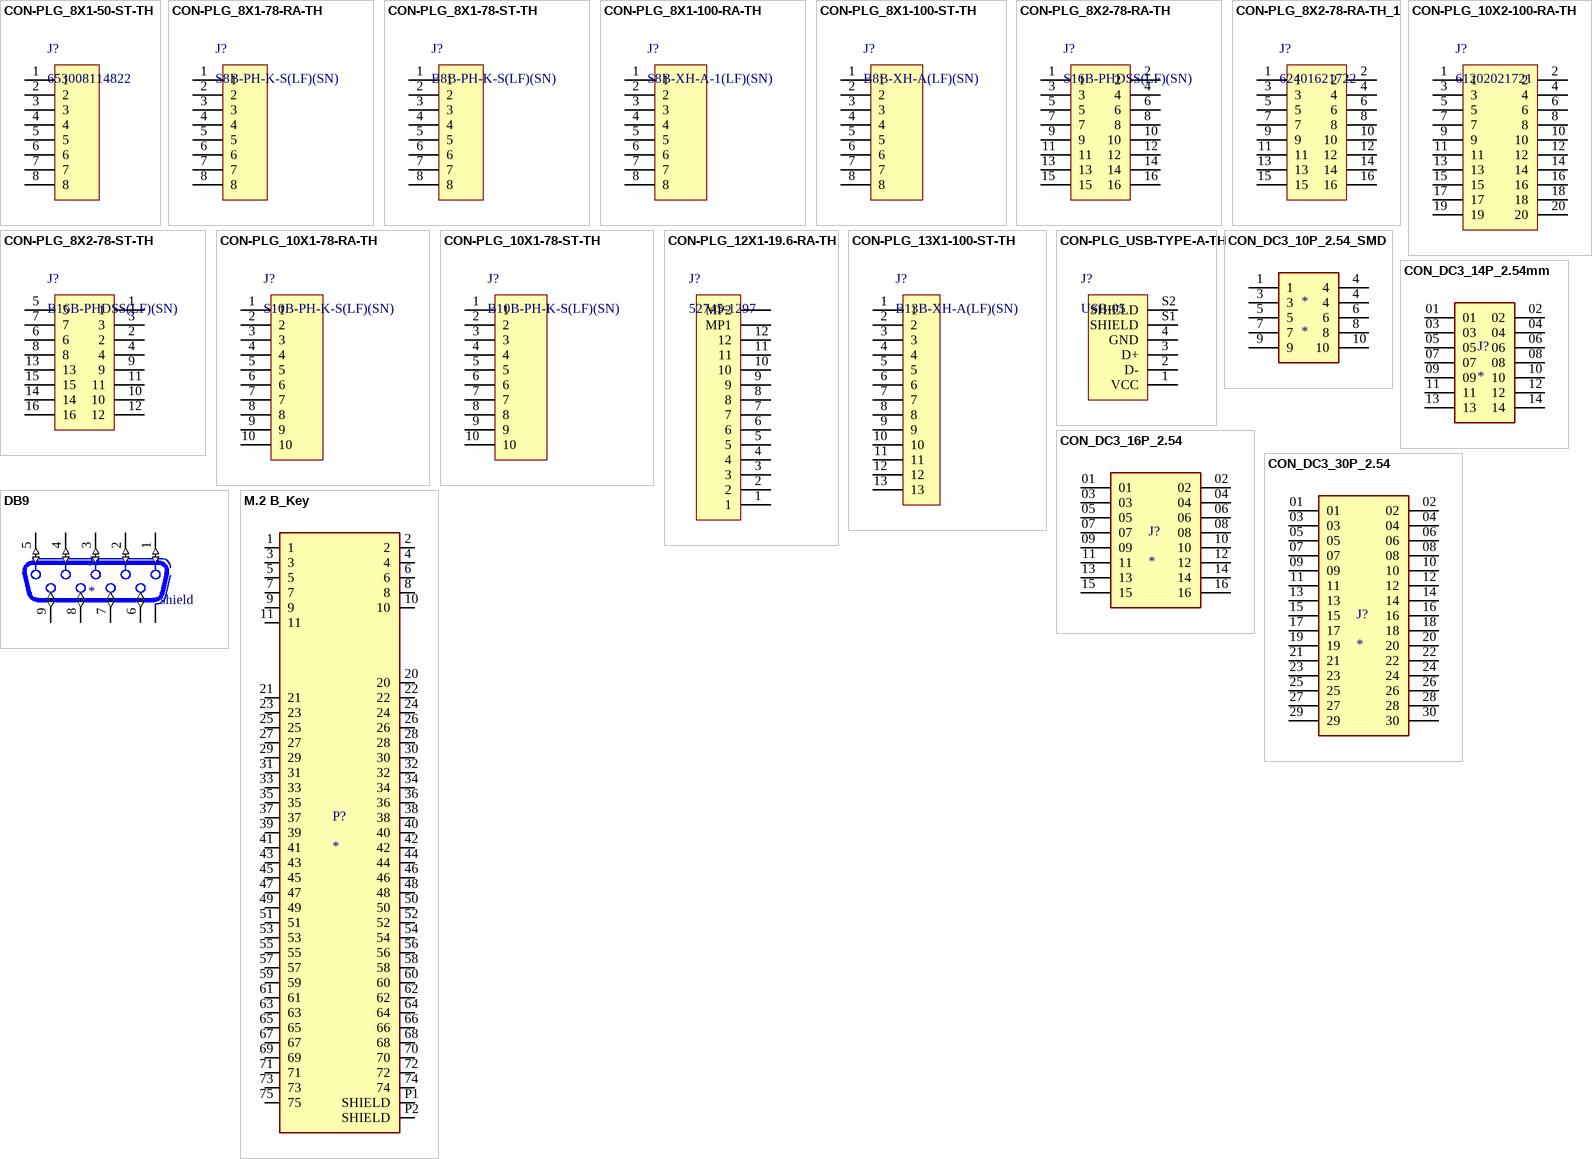
[diagram p2: symbols CON-PLG_8X1-50-ST-TH to M.2 B_Key]

## CON-PLG_8X1-50-ST-TH
designator J?, comment 653008114822
8 Pins, 1 Row 1.25mm Pitch, straight Connector, male; Manufacturer: Wurth Electronics; Mating Part Number: 653008113322; Crimp Part Number: 653153128130; Alternate Part Number-1: NA; Manufacturer Part Number: 653008114822; Case/Package: TH-CON; Supplier-1: WURTH; Supplier Part Number-1: 653008114822
footprint CON8_50_653008114822_TH_ST (wurth connector)
pins: 1, 2, 3, 4, 5, 6, 7, 8

## CON-PLG_8X1-78-RA-TH
designator J?, comment S8B-PH-K-S(LF)(SN)
8 Pins, 1 Row 2mm Pitch, right angle Connector, male; Manufacturer: JST; Mating Part Number: PHR-8; Crimp Part Number: ASPHSPH24K51; Alternate Part Number-1: NA; Manufacturer Part Number: S8B-PH-K-S(LF)(SN); Case/Package: TH-CON; Supplier-1: ARROW; Supplier Part Number-1: S8B-PH-K-S(LF)(SN)
footprint CON8_78_S8B-PH-K-S_TH_RA (Connector Header)
pins: 1, 2, 3, 4, 5, 6, 7, 8

## CON-PLG_8X1-78-ST-TH
designator J?, comment B8B-PH-K-S(LF)(SN)
8 Pins, 1 Row 2mm Pitch, straight Connector, male; Manufacturer: JST; Mating Part Number: PHR-8; Alternate Part Number-1: NA; Manufacturer Part Number: B8B-PH-K-S(LF)(SN); Case/Package: TH-CON; Supplier-1: LCSC; Supplier Part Number-1: C157975; Crimp Part Number: *
footprint CON8_78_B8B-PH-K-S_TH_ST (Connector Header)
pins: 1, 2, 3, 4, 5, 6, 7, 8

## CON-PLG_8X1-100-RA-TH
designator J?, comment S8B-XH-A-1(LF)(SN)
8 Pins, 1 Row 2.54mm Pitch, right angle Connector, male; Manufacturer: WE; Mating Part Number: XHP-8; Crimp Part Number: ASXHSXH22K51; Alternate Part Number-1: NA; Manufacturer Part Number: S8B-XH-A-1(LF)(SN); Case/Package: TH-CON; Supplier-1: LCSC; Supplier Part Number-1: C157914
footprint CON8_100_S8B-XH-A_TH_RA (Connector Header)
pins: 1, 2, 3, 4, 5, 6, 7, 8

## CON-PLG_8X1-100-ST-TH
designator J?, comment B8B-XH-A(LF)(SN)
8 Pins, 1 Row 2.54mm Pitch, straight Connector, male; Manufacturer: JST; Mating Part Number: XHP-8; Crimp Part Number: ASXHSXH22K51; Alternate Part Number-1: NA; Manufacturer Part Number: B8B-XH-A(LF)(SN); Case/Package: TH-CON; Supplier-1: LCSC; Supplier Part Number-1: C157972
footprint CON8_100_B8B-XH-A_TH_ST (Connector Header)
pins: 1, 2, 3, 4, 5, 6, 7, 8

## CON-PLG_8X2-78-RA-TH
designator J?, comment S16B-PHDSS(LF)(SN)
16 Pins, 2 Row 2mm Pitch, right angle Connector, male; Manufacturer: JST; Mating Part Number: PHDR-16VS; Crimp Part Number: SPHD-001T-P0.5; Alternate Part Number-1: NA; Manufacturer Part Number: S16B-PHDSS(LF)(SN); Case/Package: TH-CON; Supplier-1: LCSC; Supplier Part Number-1: C161675
footprint CON16_78_S16B-PHDSS_TH-RA (CONNECTOR)
pins: 1, 2, 3, 4, 5, 6, 7, 8, 9, 10, 11, 12, 13, 14, 15, 16

## CON-PLG_8X2-78-RA-TH_1
designator J?, comment 62401621722
Connector Header Through Hole, Right Angle 16 position 0.079" (2.00mm); Manufacturer: Würth Elektronik; Mating Part Number: 624016213322; Crimp Part Number: 62410113722; Alternate Part Number-1: NA; Manufacturer Part Number: 62401621722; Case/Package: TH; Supplier-1: Wurth; Supplier Part Number-1: 62401621722
footprint CON16_78_62401621722_TH_RA (Wurth Connector)
pins: 1, 2, 3, 4, 5, 6, 7, 8, 9, 10, 11, 12, 13, 14, 15, 16

## CON-PLG_8X2-78-ST-TH
designator J?, comment B16B-PHDSS(LF)(SN)
16 Pins, 2 Row 2mm Pitch, straight Connector, male; Manufacturer: JST; Mating Part Number: PHDR-16VS; Crimp Part Number: SPHD-001T-P0.5; Alternate Part Number-1: NA; Manufacturer Part Number: B16B-PHDSS(LF)(SN); Case/Package: TH-CON; Supplier-1: LCSC; Supplier Part Number-1: C160325
footprint CON16_78_59D59_TH_ST (Connector)
pins: 1, 2, 3, 4, 5, 6, 7, 8, 9, 10, 11, 12, 13, 14, 15, 16

## CON-PLG_10X1-78-RA-TH
designator J?, comment S10B-PH-K-S(LF)(SN)
10 Pins, 1 Row 2mm Pitch, right angle Connector, male; Manufacturer: JST; Mating Part Number: PHR-10; Crimp Part Number: ASPHSPH24K51; Alternate Part Number-1: NA; Manufacturer Part Number: S10B-PH-K-S(LF)(SN); Case/Package: TH-CON; Supplier-1: ARROW; Supplier Part Number-1: S10B-PH-K-S(LF)(SN)
footprint CON10_78_S10B-PH-K-S_TH_RA (Connector Header Through Hole, Right Angle 10 position 0.079" (2.00mm))
pins: 1, 2, 3, 4, 5, 6, 7, 8, 9, 10

## CON-PLG_10X1-78-ST-TH
designator J?, comment B10B-PH-K-S(LF)(SN)
10 Pins, 1 Row 2mm Pitch, straight Connector, male; Manufacturer: jst; Mating Part Number: PHR-10; Crimp Part Number: ASPHSPH24K51; Alternate Part Number-1: NA; Manufacturer Part Number: B10B-PH-K-S(LF)(SN); Case/Package: TH-CON; Supplier-1: Arrow; Supplier Part Number-1: B10B-PH-K-S(LF)(SN)
footprint CON10_78_B10B-PH-K-S(LF)(SN)_TH_ST (JST CONNECTOR)
pins: 1, 2, 3, 4, 5, 6, 7, 8, 9, 10

## CON-PLG_10X2-100-RA-TH
designator J?, comment 61202021721
Connector Header Through Hole, Right Angle 20 position 0.100" (2.54mm); Manufacturer: WE; Mating Part Number: 61202023021; Crimp Part Number: 3365/20 300; Alternate Part Number-1: NA; Manufacturer Part Number: 61202021721; Case/Package: TH; Supplier-1: Mouser; Supplier Part Number-1: 710-61202021721
footprint CON20_100_61202021721_TH_RA (Connector Header Through Hole, Right Angle 20 position 0.100" (2.54mm))
pins: 1, 2, 3, 4, 5, 6, 7, 8, 9, 10, 11, 12, 13, 14, 15, 16, 17, 18, 19, 20

## CON-PLG_12X1-19.6-RA-TH
designator J?, comment 52745-1297
12 Pins, 1 Row 19.6mil Pitch, right angle Connector, male; Manufacturer: Molex; Mating Part Number: 687612050002; Alternate Part Number-1: NA; Manufacturer Part Number: 52745-1297; Case/Package: TH-CON; Supplier-1: MOUSER; Supplier Part Number-1: 538-52745-1297
footprint CON12_19.7_0527451297_RA_SMD (CONNECTOR)
pins: 1, 2, 3, 4, 5, 6, 7, 8, 9, 10, 11, 12, MP1, MP2

## CON-PLG_13X1-100-ST-TH
designator J?, comment B13B-XH-A(LF)(SN)
Connector Header Through Hole 13 position 0.098" (2.50mm); Manufacturer: JST Sales America Inc.; Mating Part Number: XHP-13; Crimp Part Number: ASXHSXH22K51; Alternate Part Number-1: NA; Manufacturer Part Number: B13B-XH-A(LF)(SN); Case/Package: TH; Supplier-1: Arrow; Supplier Part Number-1: B13B-XH-A(LF)(SN)
footprint CON13_100_B13B-XH-A(LF)(SN) (JST CON)
pins: 1, 2, 3, 4, 5, 6, 7, 8, 9, 10, 11, 12, 13

## CON-PLG_USB-TYPE-A-TH
designator J?, comment USB-05
USB Connectors USB CONN PLUG RA SMT POST 1.1 REEL; Manufacturer: TE Connectivity; Alternate Part Number-1: NA; Manufacturer Part Number: USB-05; Case/Package: TH; Supplier-1: LCSC; Supplier Part Number-1: C112454
footprint USB2.0_TYPE-A_TH (USB 2.0 TYPE A)
pins: 1 VCC (power), 2 D-, 3 D+, 4 GND (power), S1 SHIELD (power), S2 SHIELD (power)

## CON_DC3_10P_2.54_SMD
designator *
footprint DC3_2.54_2X5_SMD_10P
pins: 1, 3, 4, 4, 5, 6, 7, 8, 9, 10

## CON_DC3_14P_2.54mm
designator J?
IDC Cable-to-Board Connector System, Shrouded Slim Line Header, Vertical, Through Hole, Double Row, 14 Positions, 2.54mm (0.100in) Pitch.; MP: 66506-020LF; MF: Amphenol ICC (FCI); Purchase-URL: https://pricing.snapeda.com/search/part/66506-020LF/?ref=eda; Availability: In Stock; SnapEDA_Link: https://www.snapeda.com/parts/66506-020LF/Amphenol+FCI/view-part/?ref=snap; Package: None; Check_prices: https://www.snapeda.com/parts/66506-020LF/Amphenol+FCI/view-part/?ref=eda; Value: *; Price: None
footprint DC3_CON_7X2_2.54MM
pins: 01, 02, 03, 04, 05, 06, 07, 08, 09, 10, 11, 12, 13, 14

## CON_DC3_16P_2.54
designator J?
QuickieÂ® IDC Cable-to-Board Connector System, Shrouded Slim Line Header, Vertical, Through Hole, Double Row, 16 Positions, 2.54mm (0.100in) Pitch.; MP: 88880-044; MF: Amphenol ICC (FCI); Purchase-URL: https://pricing.snapeda.com/search/part/88880-044/?ref=eda; Availability: In Stock; SnapEDA_Link: https://www.snapeda.com/parts/88880-044/Amphenol+FCI/view-part/?ref=snap; Package: None; Value: *; Check_prices: https://www.snapeda.com/parts/88880-044/Amphenol+FCI/view-part/?ref=eda; Price: None
footprint IDC_DC3_8X2_16P_2.54MM
footprint IDC_DC3_RA_8X2_16P_2.54MM
pins: 01, 02, 03, 04, 05, 06, 07, 08, 09, 10, 11, 12, 13, 14, 15, 16

## CON_DC3_30P_2.54
designator J?
IDC Cable-to-Board Connector System, Shrouded Slim Line Header, Vertical, Through Hole, Double Row, 30 Positions, 2.54mm (0.100in) Pitch.; MP: 66506-020LF; MF: Amphenol ICC (FCI); Purchase-URL: https://pricing.snapeda.com/search/part/66506-020LF/?ref=eda; Availability: In Stock; SnapEDA_Link: https://www.snapeda.com/parts/66506-020LF/Amphenol+FCI/view-part/?ref=snap; Package: None; Check_prices: https://www.snapeda.com/parts/66506-020LF/Amphenol+FCI/view-part/?ref=eda; Value: *; Price: None
footprint IDC_DC3_30P_2.54MM
pins: 01, 02, 03, 04, 05, 06, 07, 08, 09, 10, 11, 12, 13, 14, 15, 16, 17, 18, 19, 20, 21, 22, 23, 24, 25, 26, 27, 28, 29, 30

## DB9
designator J?
SOCKET, D SUB, PCB, R/A, 9WAY; No. of Contacts:9Contacts; Gender:Receptacle; Contact Termination Type:Solder; D Sub Shell Size:DE; Product Range:WR-DSUB Series; Connector Body Material:Steel Body; Contact Material:Copper Alloy; Contact Plating:Gold Plated Contacts; SVHC:Lead (15-Jan-2019); Connector Mounting:Through Hole Mount Right Angle; Contact Termination:Solder; D Sub Connector Type:Standard; No. of Mating Cycles:50; MF: {'manufacturer': u'W\xfcrth Elektronik'}; MP: 618009231121; Package: None; Price: None; Value: *; Availability: Unavailable; ComponentLink1Description: New link; ComponentLink1URL: https://www.snapeda.com/parts/618009231121/W%C3%BCrth%20Elektronik/view-part/?ref=search&t=D%20SUB%209P&ab_test_case=b
footprint DB9
pins: 1 (io), 2 (io), 3 (io), 4 (io), 5 (io), 6 (io), 7 (io), 8 (io), 9 (io), S1 SHIELD (io), S2 SHIELD (io)
text: shield

## M.2 B_Key
designator P?
PCIe M.2 Connectors, Storage and Server Connector, P=0.5mm, H=4.2mm, Key B,Gold Plating; MF: Amphenol ICC; MP: MDT420B03001; SnapEDA_Link: https://www.snapeda.com/parts/MDT420B03001/Amphenol/view-part/?ref=snap; Package: None; Value: *; Check_prices: https://www.snapeda.com/parts/MDT420B03001/Amphenol/view-part/?ref=eda
footprint M.2 B_Key
pins: 1, 2, 3, 4, 5, 6, 7, 8, 9, 10, 11, 20, 21, 22, 23, 24, 25, 26, 27, 28, 29, 30, 31, 32, 33, 34, 35, 36, 37, 38, 39, 40, 41, 42, 43, 44, 45, 46, 47, 48, 49, 50, 51, 52, 53, 54, 55, 56, 57, 58, 59, 60, 61, 62, 63, 64, 65, 66, 67, 68, 69, 70, 71, 72, 73, 74, 75, P1 SHIELD, P2 SHIELD